# EAGLE library part 160X128-TFT/SD-ADAFRUIT (library rlc)
1.8" 18-bit color TFT LCD display with microSD card breakout from adafruit Link <http://www.adafruit.com/products/358>
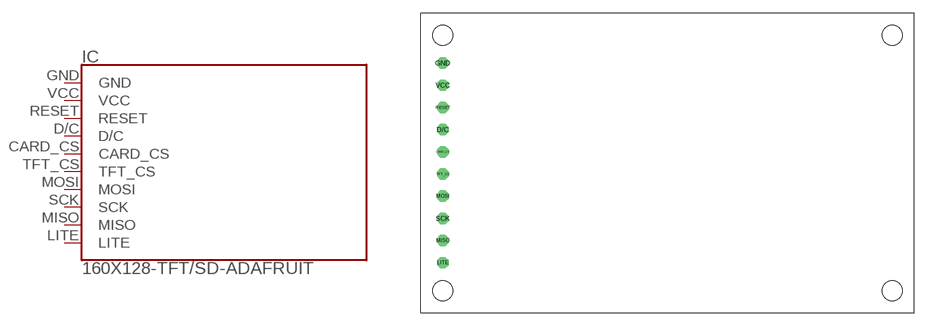
[diagram p0: symbol with the pads of 160X128-TFT/SD-ADAFRUIT-BREAKOUT; footprint 160X128-TFT/SD-ADAFRUIT-BREAKOUT]

Designator prefix IC

## 160X128-TFT/SD-ADAFRUIT  [160X128-TFT/SD-ADAFRUIT-BREAKOUT]
CARD_CS  CARD_CS
D/C  D/C
GND  GND  pwr
LITE  LITE
MISO  MISO
MOSI  MOSI
RESET  RESET
SCK  SCK
TFT_CS  TFT_CS
VCC  VCC  pwr

## Footprint 160X128-TFT/SD-ADAFRUIT-BREAKOUT (pad centres in mm)
drill 0.8 octagon: CARD_CS 0,-10.16; D/C 0,-7.62; GND 0,0; LITE 0,-22.86; MISO 0,-20.32; MOSI 0,-15.24; RESET 0,-5.08; SCK 0,-17.78; TFT_CS 0,-12.7; VCC 0,-2.54
hole 2.286 at 0,-26.035
hole 2.286 at 0,3.175
hole 2.286 at 51.435,3.175
hole 2.286 at 51.435,-26.035